# EAGLE library part TPS54821 (library common)
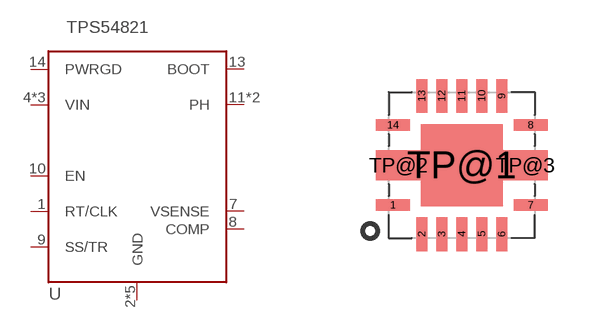
[diagram p25: symbol with the pads of VQFN-14; footprint VQFN-14]

Designator prefix U

## TPS54821  [VQFN-14]
1  RT/CLK
2  GND
3  GND
4  VIN
5  VIN
6  VIN
7  VSENSE
8  COMP
9  SS/TR
10  EN
11  PH
12  PH
13  BOOT
14  PWRGD
TP@1  GND
TP@2  GND
TP@3  GND

## Footprint VQFN-14 (pad centres in mm)
smd 0.85 x 0.28: 1 -1.725,-1; 7 1.725,-1; 8 1.725,1; 14 -1.725,1
smd 0.28 x 0.85: 2 -1,-1.725; 3 -0.5,-1.725; 4 0,-1.725; 5 0.5,-1.725; 6 1,-1.725; 9 1,1.725; 10 0.5,1.725; 11 0,1.725; 12 -0.5,1.725; 13 -1,1.725
smd 2.05 x 2.05: TP@1 0,0
smd 1.125 x 0.75: TP@2 -1.587,0; TP@3 1.587,0